# Altium schematic symbol library OR.SchLib: 1 symbol
Pins are listed as number, name and electrical type; pins without a type are passive.

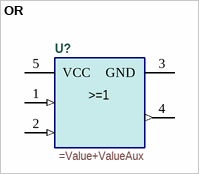
[diagram p0: symbol OR]

## OR
designator U?
=Description
pins: 1 A (in), 2 B (in), 3 GND (power), 4 Y (out), 5 VCC (power)
text: >=1